# Altium integrated library ERJU08F2202V.IntLib: 1 symbol
Pins are listed as number, name and electrical type; pins without a type are passive.

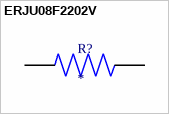
[diagram p0: symbol ERJU08F2202V]

## ERJU08F2202V
designator R?
MP: ERJU08F2202V; Package: None; Value: *; Price: None; Availability: Unavailable
footprint RES_ERJU08F2202V
pins: 1, 2